# Altium schematic symbol library Displays.SchLib: 1 symbol
Pins are listed as number, name and electrical type; pins without a type are passive.

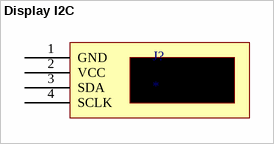
[diagram p0: symbol Display I2C]

## Display I2C
designator J?
Display OLED. Communication protocol: I2C
footprint SSD1306 (Display OLED, I2C)
pins: 1 GND (power), 2 VCC (power), 3 SDA, 4 SCLK